# Altium footprint library test.PcbLib: 17 footprints (part 2 of 2)
Each footprint in its own frame and in the unit in brackets; x right, y up, seen from the top. Pads: shape width x height; smd on the part's side, far side on the other; paste and mask are expansions set on the pad; w line width, h text height; cw(c..) or ccw(c..) is an arc to the next point about the centre after c.
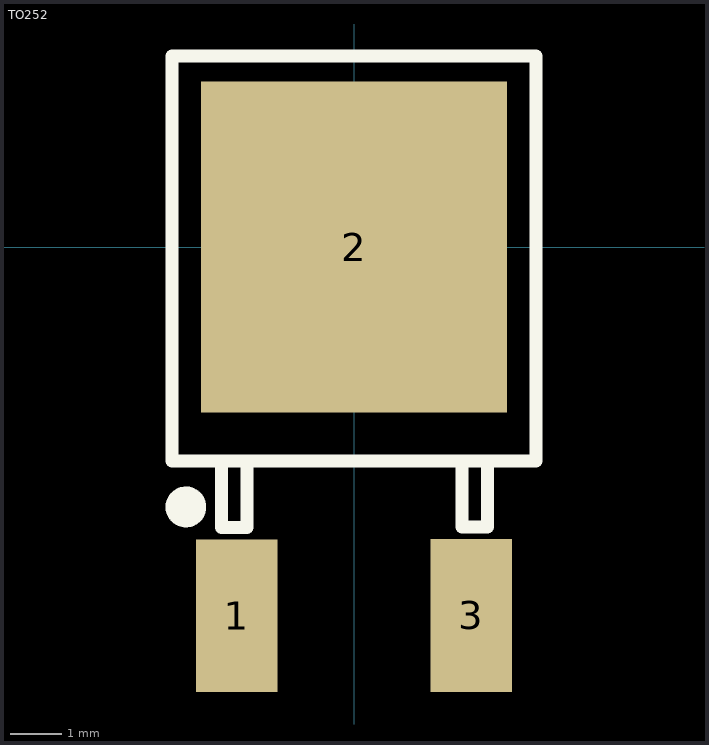
[diagram p1: the footprint, top view; thin cyan lines are the x and y axes]

## TO252 [mil]
pads (3):
  rect 62.99x118.1 smd: 1(-90.55,-284.8)
  rect 236.2x255.9 smd: 2(0,0)
  rect 63x118.2 smd: 3(90.5,-284.55)
Top Overlay:
  lines w10: -102.36,-165.31 -102.36,-216.49 -82.68,-216.49 -82.68,-165.31 ; 83.56,-165.15 83.56,-216.33 103.25,-216.33 103.25,-165.15 ; -140.67,-165.31 -140.67,147.68 140.67,147.68 140.67,-165.31 -140.67,-165.31
  lines w15.75: -122,-200.85 cw(c-129.87,-200.8) -122,-200.75
Mechanical 15:
  lines w0.1: 4,-162.09 6,-164.09
3D body "CircuitWorks-TO-252.STEP": height 90.55, standoff 0, extent -129.53,-285.48 129.53,96.41